# EAGLE library part MAX1562H (library AS-2-Extras)
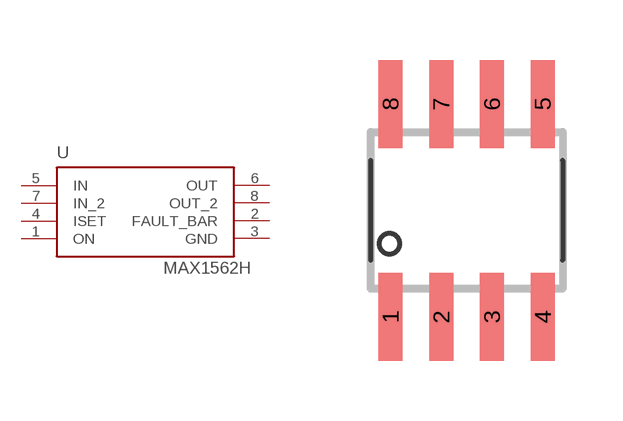
[diagram p3: symbol with the pads of 8-SOIC; footprint 8-SOIC]

Designator prefix -

## MAX1562H  [8-SOIC]
1  ON
2  FAULT_BAR  out
3  GND  pwr
4  ISET  in
5  IN  pwr
6  OUT  out
7  IN_2  pwr
8  OUT_2  out

## Footprint 8-SOIC (pad centres in mm)
smd 0.6 x 2.2: 1 -1.905,-3.315; 2 -0.635,-3.315; 3 0.635,-3.315; 4 1.905,-3.315; 5 1.905,2.015; 6 0.635,2.015; 7 -0.635,2.015; 8 -1.905,2.015